# EAGLE library part LME49830 (library texas)
Mono High Fidelity 200V MOSFET Power Amplifier +/-20V to +/-200V Power Supply
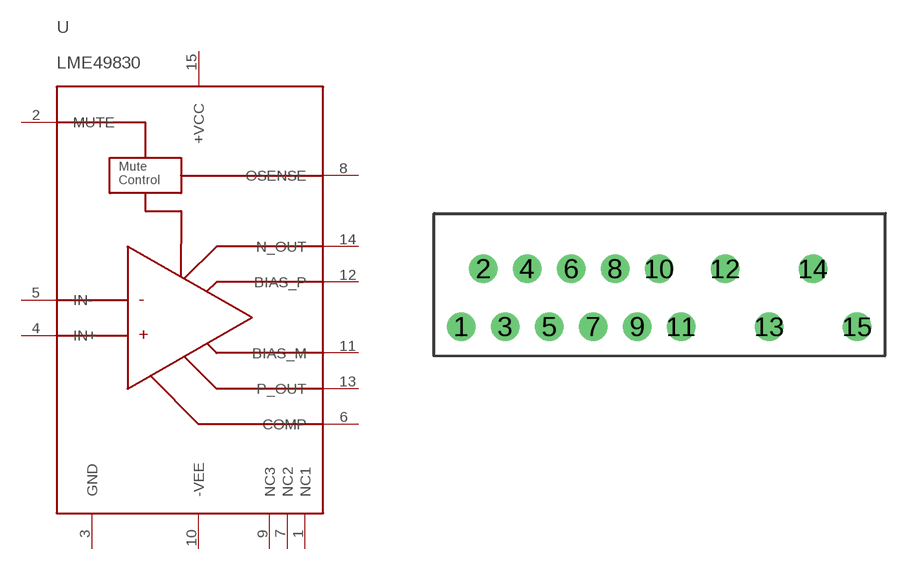
[diagram p123: symbol with the pads of NDN0015A; footprint NDN0015A]

Designator prefix U

## LME49830  [NDN0015A]
1  NC1  nc
2  MUTE  in
3  GND  pwr
4  IN+  in
5  IN-  in
6  COMP  in
7  NC2  nc
8  OSENSE  in
9  NC3  out
10  -VEE  pwr
11  BIAS_M  pas
12  BIAS_P  pas
13  P_OUT  out
14  N_OUT  out
15  +VCC  pwr

## Footprint NDN0015A (pad centres in mm)
drill 0.7 pad 1.25: 1 0,0; 2 0.965,2.54; 3 1.93,0; 4 2.895,2.54; 5 3.86,0; 6 4.825,2.54; 7 5.79,0; 8 6.755,2.54; 9 7.72,0; 10 8.685,2.54; 11 9.65,0; 12 11.58,2.54; 13 13.51,0; 14 15.44,2.54; 15 17.37,0